# EAGLE library part UBLOX_LEA6 (library joby_robotics)
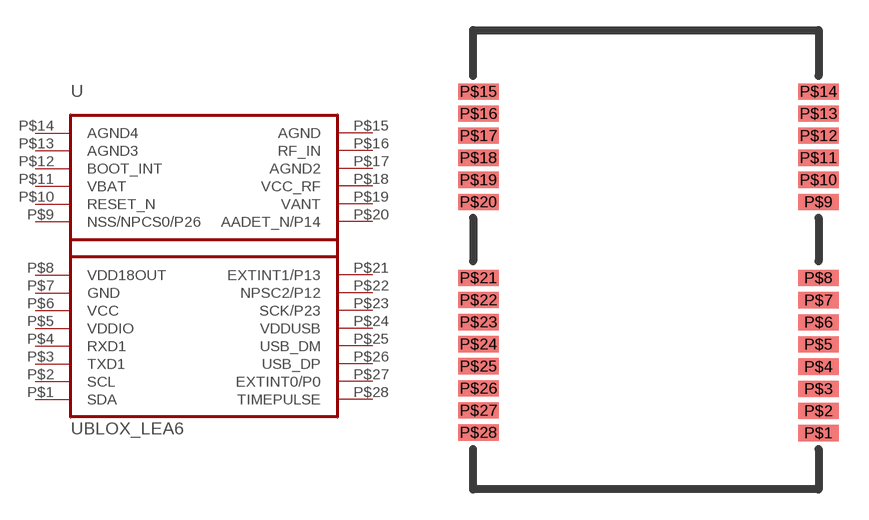
[diagram p5: symbol with the pads of UBLOX_LEA6; footprint UBLOX_LEA6]

Designator prefix -

## UBLOX_LEA6  [UBLOX_LEA6]
P$1  SDA
P$2  SCL
P$3  TXD1
P$4  RXD1
P$5  VDDIO
P$6  VCC
P$7  GND
P$8  VDD18OUT
P$9  NSS/NPCS0/P26
P$10  RESET_N
P$11  VBAT
P$12  BOOT_INT
P$13  AGND3
P$14  AGND4
P$15  AGND
P$16  RF_IN
P$17  AGND2
P$18  VCC_RF
P$19  VANT
P$20  AADET_N/P14
P$21  EXTINT1/P13
P$22  NPSC2/P12
P$23  SCK/P23
P$24  VDDUSB
P$25  USB_DM
P$26  USB_DP
P$27  EXTINT0/P0
P$28  TIMEPULSE

## Footprint UBLOX_LEA6 (pad centres in mm)
smd 2.032 x 0.813: P$1 8.496,-10.763; P$2 8.496,-9.658; P$3 8.496,-8.553; P$4 8.496,-7.449; P$5 8.496,-6.331; P$6 8.496,-5.226; P$7 8.496,-4.121; P$8 8.496,-3.004; P$9 8.496,0.794; P$10 8.496,1.899; P$11 8.496,3.004; P$12 8.496,4.109; P$13 8.496,5.213; P$14 8.496,6.318; P$15 -8.496,6.318; P$16 -8.496,5.213; P$17 -8.496,4.109; P$18 -8.496,3.004; P$19 -8.496,1.899; P$20 -8.496,0.794; P$21 -8.496,-3.004; P$22 -8.496,-4.109; P$23 -8.496,-5.213; P$24 -8.496,-6.318; P$25 -8.496,-7.423; P$26 -8.496,-8.528; P$27 -8.496,-9.633; P$28 -8.496,-10.738